# Altium schematic symbol library V.SchLib: 4 symbols
Pins are listed as number, name and electrical type; pins without a type are passive.

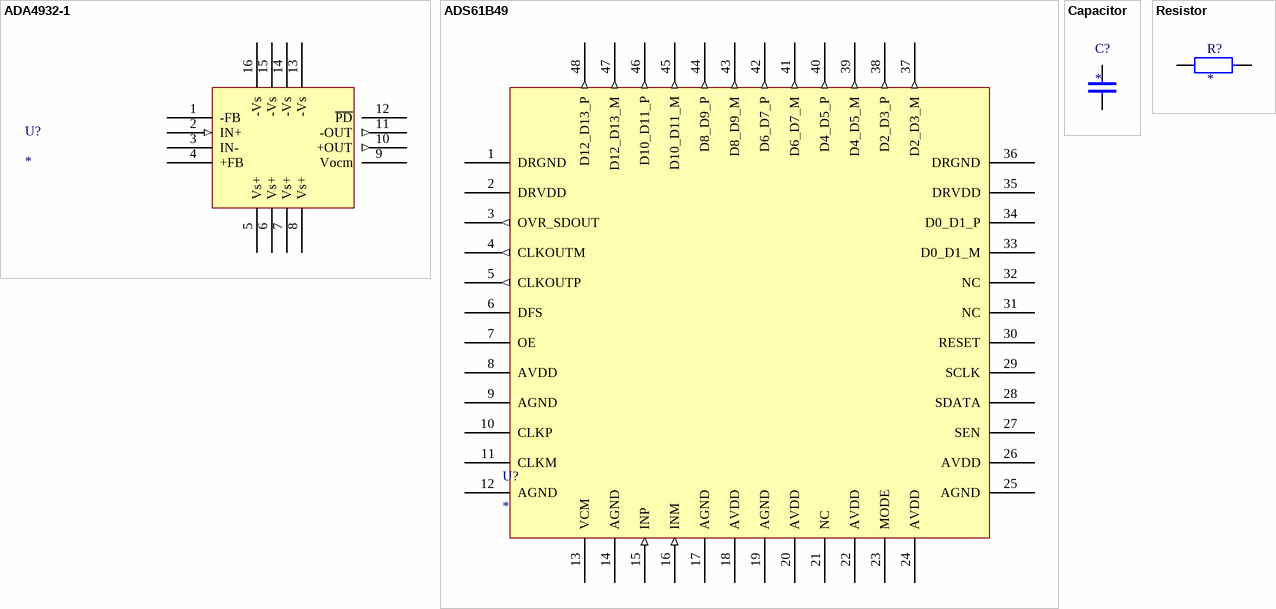
[diagram p0: symbols ADA4932-1 to Resistor]

## ADA4932-1
designator U?
footprint LFCSP-16 (ADA4932-1,)
pins: 1 -FB, 2 IN+ (in), 3 IN-, 4 +FB, 5 Vs+, 6 Vs+, 7 Vs+, 8 Vs+, 9 Vocm, 10 +OUT (out), 11 -OUT (out), 12 ~{PD}, 13 -Vs, 14 -Vs, 15 -Vs, 16 -Vs, 17 hidden to GND

## ADS61B49
designator U?
footprint QFN-48 (ADS61B49)
pins: 0 Therm_Pad hidden to GND, 1 DRGND, 2 DRVDD, 3 OVR_SDOUT (out), 4 CLKOUTM (out), 5 CLKOUTP (out), 6 DFS, 7 OE, 8 AVDD, 9 AGND (power), 10 CLKP, 11 CLKM, 12 AGND (power), 13 VCM, 14 AGND, 15 INP (in), 16 INM (in), 17 AGND (power), 18 AVDD (power), 19 AGND (power), 20 AVDD (power), 21 NC, 22 AVDD, 23 MODE, 24 AVDD (power), 25 AGND (power), 26 AVDD (power), 27 SEN, 28 SDATA, 29 SCLK, 30 RESET, 31 NC, 32 NC, 33 D0_D1_M, 34 D0_D1_P, 35 DRVDD, 36 DRGND, 37 D2_D3_M (out), 38 D2_D3_P (out), 39 D4_D5_M (out), 40 D4_D5_P (out), 41 D6_D7_M (out), 42 D6_D7_P (out), 43 D8_D9_M (out), 44 D8_D9_P (out), 45 D10_D11_M (out), 46 D10_D11_P (out), 47 D12_D13_M (out), 48 D12_D13_P (out)

## Capacitor
designator C?
footprint 0805
pins: 1, 2

## Resistor
designator R?
footprint 0805
pins: 1, 2